# EAGLE library part TCD1103_TCD1103 (library spectrometer_mother_board_v1)
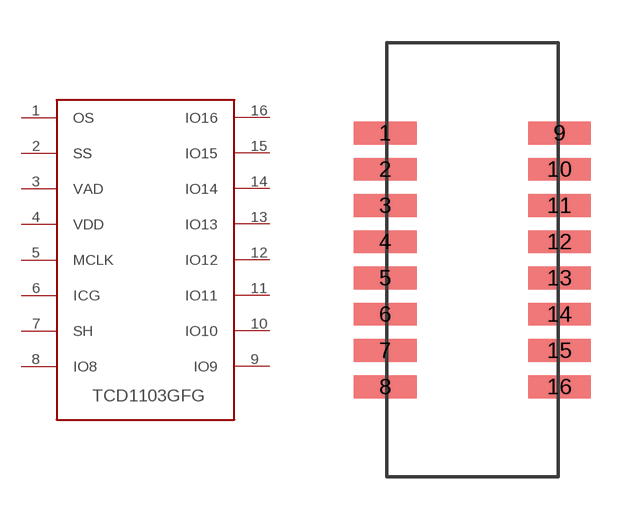
[diagram p3: symbol with the pads of TCD1103_WQFN16X-240B; footprint TCD1103_WQFN16X-240B]

Designator prefix -

## TCD1103_TCD1103  [TCD1103_WQFN16X-240B]
1  OS
2  SS
3  VAD
4  VDD
5  MCLK
6  ICG
7  SH
8  IO8  nc
9  IO9  nc
10  IO10  nc
11  IO11  nc
12  IO12  nc
13  IO13  nc
14  IO14  nc
15  IO15  nc
16  IO16  nc

## Footprint TCD1103_WQFN16X-240B (pad centres in mm)
smd 2.2 x 0.8: 1 -0.55,8.89; 2 -0.55,7.62; 3 -0.55,6.35; 4 -0.55,5.08; 5 -0.55,3.81; 6 -0.55,2.54; 7 -0.55,1.27; 8 -0.55,0; 9 5.55,8.89; 10 5.55,7.62; 11 5.55,6.35; 12 5.55,5.08; 13 5.55,3.81; 14 5.55,2.54; 15 5.55,1.27; 16 5.55,0